# Altium footprint library ELEC(12.5X25.0)-TH.PcbLib: 1 footprints
Each footprint in its own frame and in the unit in brackets; x right, y up, seen from the top. Pads: shape width x height; smd on the part's side, far side on the other; paste and mask are expansions set on the pad; w line width, h text height; cw(c..) or ccw(c..) is an arc to the next point about the centre after c.
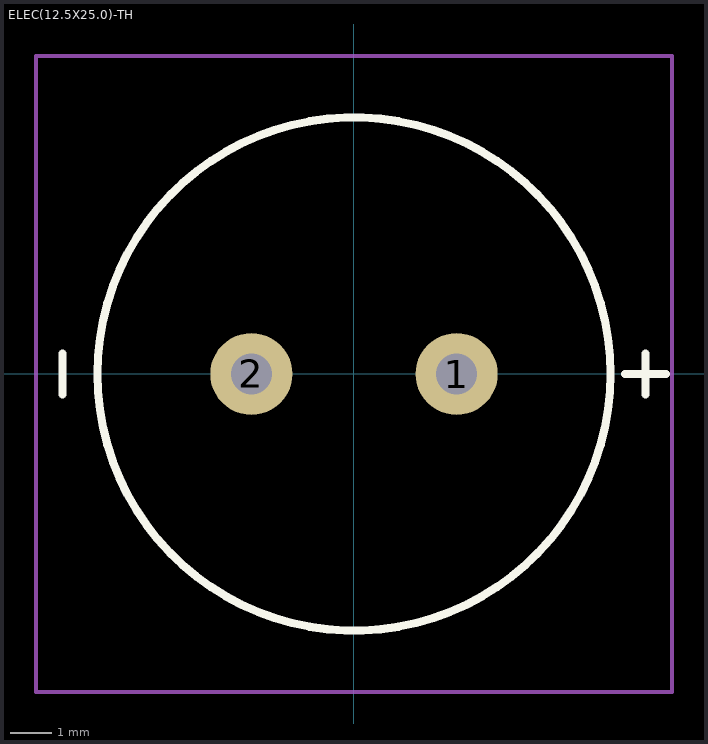
[diagram p0: the footprint, top view; thin cyan lines are the x and y axes]

## ELEC(12.5X25.0)-TH [mm]
pads (2):
  round 2 hole 1: 1(2.5,0) 2(-2.5,0)
Top Overlay:
  circle w0.2: c0,0 r6.25
  lines w0.2: -7.1,-0.5 -7.1,0.5 ; 6.6,0 7.6,0 ; 7.1,-0.5 7.1,0.5
Top Courtyard:
  lines w0.1: -7.75,-6.25 -7.75,-7.75 ; -6.25,-7.75 -7.75,-7.75 ; 6.25,7.75 7.75,7.75 ; 7.75,6.25 7.75,7.75 ; -7.75,-7.75 -7.75,7.75 7.75,7.75 ; -7.75,-7.75 7.75,-7.75 7.75,7.75
3D body "E-LEAD_D12.5_L25__FLAT-RUBBER_SLEEVE_STRUCTURE.stp": height 25, standoff -19, extent -6.245,-6.25 6.248,6.25